# Altium footprint library DemoSchlib.PcbLib: 59 footprints (part 4 of 4)
Each footprint in its own frame and in the unit in brackets; x right, y up, seen from the top. Pads: shape width x height; smd on the part's side, far side on the other; paste and mask are expansions set on the pad; w line width, h text height; cw(c..) or ccw(c..) is an arc to the next point about the centre after c.
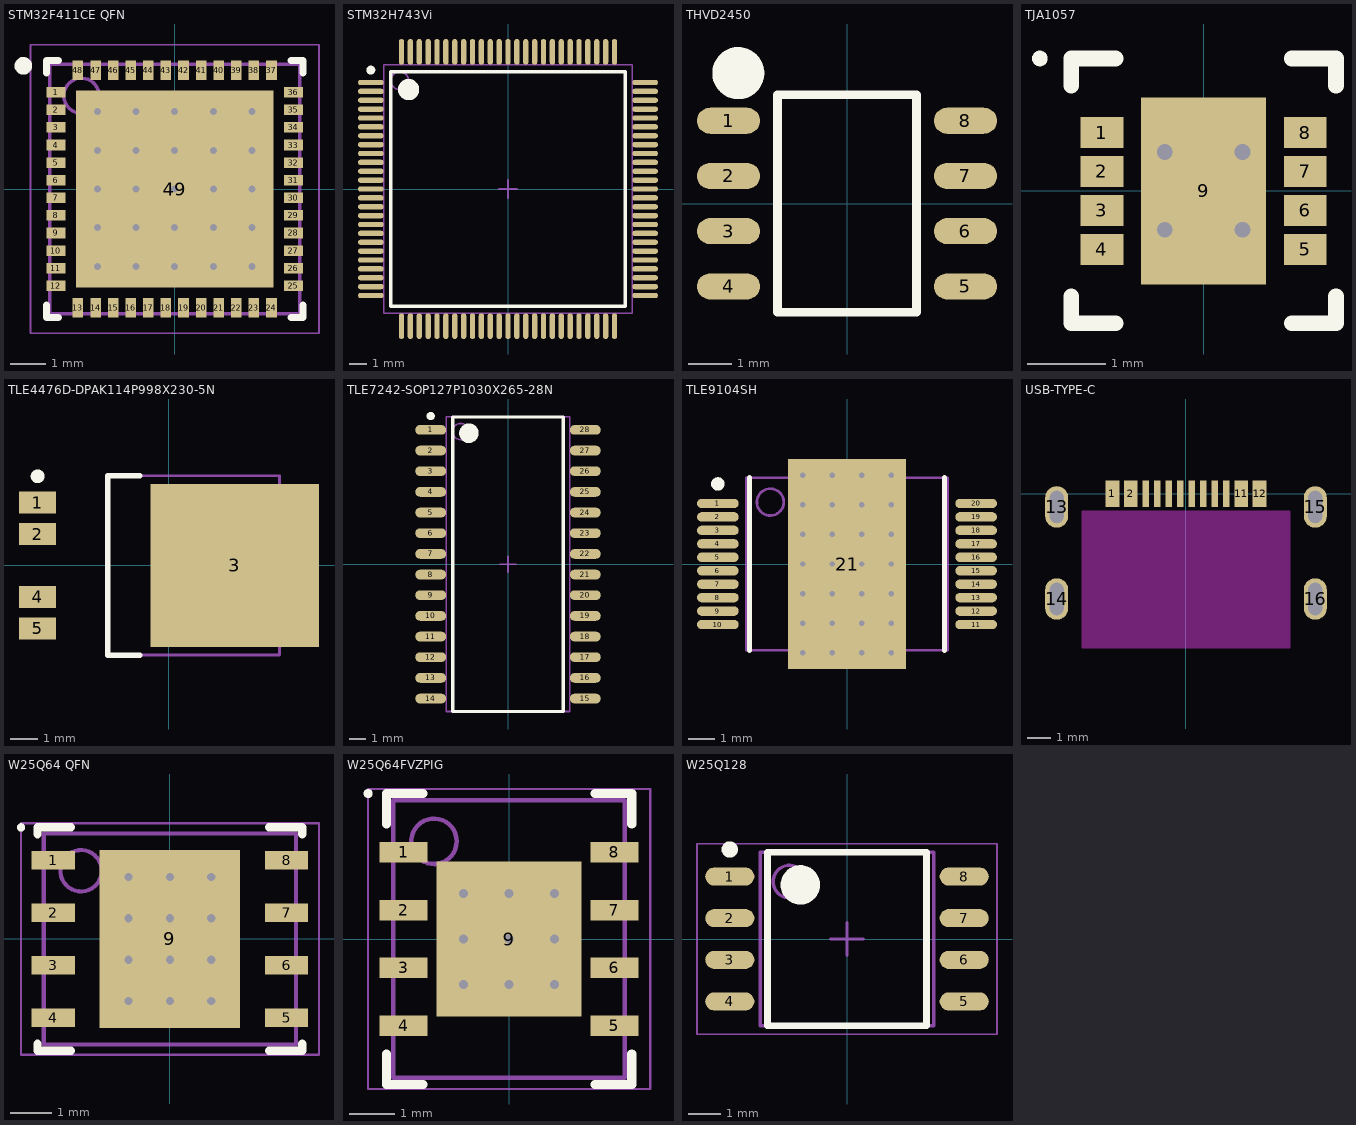
[diagram p3: the footprints below, top view; thin cyan lines are the x and y axes]

## STM32F411CE QFN [mm] "QFN, 48-Leads, Body 7.00x7.00mm, Pitch 0.50mm, Thermal Pad 5.60x5.60mm, IPC Medium Density"
height 0.6
pads (49):
  rect 0.55x0.3 smd: 1(-3.375,2.75) 2(-3.375,2.25) 3(-3.375,1.75) 4(-3.375,1.25) 5(-3.375,0.75) 6(-3.375,0.25) 7(-3.375,-0.25) 8(-3.375,-0.75) 9(-3.375,-1.25) 10(-3.375,-1.75) 11(-3.375,-2.25) 12(-3.375,-2.75) 25(3.375,-2.75) 26(3.375,-2.25) 27(3.375,-1.75) 28(3.375,-1.25) 29(3.375,-0.75) 30(3.375,-0.25) 31(3.375,0.25) 32(3.375,0.75) 33(3.375,1.25) 34(3.375,1.75) 35(3.375,2.25) 36(3.375,2.75)
  rect 0.3x0.55 smd: 13(-2.75,-3.375) 14(-2.25,-3.375) 15(-1.75,-3.375) 16(-1.25,-3.375) 17(-0.75,-3.375) 18(-0.25,-3.375) 19(0.25,-3.375) 20(0.75,-3.375) 21(1.25,-3.375) 22(1.75,-3.375) 23(2.25,-3.375) 24(2.75,-3.375) 37(2.75,3.375) 38(2.25,3.375) 39(1.75,3.375) 40(1.25,3.375) 41(0.75,3.375) 42(0.25,3.375) 43(-0.25,3.375) 44(-0.75,3.375) 45(-1.25,3.375) 46(-1.75,3.375) 47(-2.25,3.375) 48(-2.75,3.375)
  rect 5.6x5.6 smd: 49(0,0)
via -2.2,2.2 diameter 0.5 hole 0.2
via -1.1,2.2 diameter 0.5 hole 0.2
via 0,2.2 diameter 0.5 hole 0.2
via 1.1,2.2 diameter 0.5 hole 0.2
via 2.2,2.2 diameter 0.5 hole 0.2
via -2.2,1.1 diameter 0.5 hole 0.2
via -1.1,1.1 diameter 0.5 hole 0.2
via 0,1.1 diameter 0.5 hole 0.2
via 1.1,1.1 diameter 0.5 hole 0.2
via 2.2,1.1 diameter 0.5 hole 0.2
via -2.2,0 diameter 0.5 hole 0.2
via -1.1,0 diameter 0.5 hole 0.2
via 0,0 diameter 0.5 hole 0.2
via 1.1,0 diameter 0.5 hole 0.2
via 2.2,0 diameter 0.5 hole 0.2
via -2.2,-1.1 diameter 0.5 hole 0.2
via -1.1,-1.1 diameter 0.5 hole 0.2
via 0,-1.1 diameter 0.5 hole 0.2
via 1.1,-1.1 diameter 0.5 hole 0.2
via 2.2,-1.1 diameter 0.5 hole 0.2
via -2.2,-2.2 diameter 0.5 hole 0.2
via -1.1,-2.2 diameter 0.5 hole 0.2
via 0,-2.2 diameter 0.5 hole 0.2
via 1.1,-2.2 diameter 0.5 hole 0.2
via 2.2,-2.2 diameter 0.5 hole 0.2
Top Overlay:
  circle w0.25: c-4.3,3.5 r0.125
  lines w0.2: -3.65,-3.3 -3.65,-3.65 -3.3,-3.65 ; -3.65,3.3 -3.65,3.65 -3.3,3.65 ; 3.3,-3.65 3.65,-3.65 3.65,-3.3 ; 3.3,3.65 3.65,3.65 3.65,3.3
Mechanical 13:
  circle w0.1: c-2.65,2.65 r0.5
  lines w0.1: -3.55,-3.55 -3.55,3.55 3.55,3.55 3.55,-3.55 -3.55,-3.55
Mechanical 15:
  lines w0.05: -4.1,-4.1 -4.1,4.1 4.1,4.1 4.1,-4.1 -4.1,-4.1
  lines w0.1: -0.5,0 0.5,0 ; 0,-0.5 0,0.5
3D body "UFQFPN48.step": height 0.55, standoff 0, extent -3.5,-3.5 3.5,3.5

## STM32H743Vi [mm] "QFP127P600-8N"
height 1.6
pads (100):
  oval 1.45x0.3 smd: 1(-7.725,6) 2(-7.725,5.5) 3(-7.725,5) 4(-7.725,4.5) 5(-7.725,4) 6(-7.725,3.5) 7(-7.725,3) 8(-7.725,2.5) 9(-7.725,2) 10(-7.725,1.5) 11(-7.725,1) 12(-7.725,0.5) 13(-7.725,0) 14(-7.725,-0.5) 15(-7.725,-1) 16(-7.725,-1.5) 17(-7.725,-2) 18(-7.725,-2.5) 19(-7.725,-3) 20(-7.725,-3.5) 21(-7.725,-4) 22(-7.725,-4.5) 23(-7.725,-5) 24(-7.725,-5.5) 25(-7.725,-6) 51(7.725,-6) 52(7.725,-5.5) 53(7.725,-5) 54(7.725,-4.5) 55(7.725,-4) 56(7.725,-3.5) 57(7.725,-3) 58(7.725,-2.5) 59(7.725,-2) 60(7.725,-1.5) 61(7.725,-1) 62(7.725,-0.5) 63(7.725,0) 64(7.725,0.5) 65(7.725,1) 66(7.725,1.5) 67(7.725,2) 68(7.725,2.5) 69(7.725,3) 70(7.725,3.5) 71(7.725,4) 72(7.725,4.5) 73(7.725,5) 74(7.725,5.5) 75(7.725,6)
  oval 0.3x1.45 smd: 26(-6,-7.725) 27(-5.5,-7.725) 28(-5,-7.725) 29(-4.5,-7.725) 30(-4,-7.725) 31(-3.5,-7.725) 32(-3,-7.725) 33(-2.5,-7.725) 34(-2,-7.725) 35(-1.5,-7.725) 36(-1,-7.725) 37(-0.5,-7.725) 38(0,-7.725) 39(0.5,-7.725) 40(1,-7.725) 41(1.5,-7.725) 42(2,-7.725) 43(2.5,-7.725) 44(3,-7.725) 45(3.5,-7.725) 46(4,-7.725) 47(4.5,-7.725) 48(5,-7.725) 49(5.5,-7.725) 50(6,-7.725) 76(6,7.725) 77(5.5,7.725) 78(5,7.725) 79(4.5,7.725) 80(4,7.725) 81(3.5,7.725) 82(3,7.725) 83(2.5,7.725) 84(2,7.725) 85(1.5,7.725) 86(1,7.725) 87(0.5,7.725) 88(0,7.725) 89(-0.5,7.725) 90(-1,7.725) 91(-1.5,7.725) 92(-2,7.725) 93(-2.5,7.725) 94(-3,7.725) 95(-3.5,7.725) 96(-4,7.725) 97(-4.5,7.725) 98(-5,7.725) 99(-5.5,7.725) 100(-6,7.725)
Top Overlay:
  circle w0.25: c-7.725,6.7 r0.125
  circle w0.6: c-5.6,5.6 r0.3
  lines w0.2: -6.6,-6.6 -6.6,6.6 6.6,6.6 6.6,-6.6 -6.6,-6.6
Mechanical 13:
  circle w0.1: c-6.1,6.1 r0.5
  lines w0.1: -7,-7 -7,7 7,7 7,-7 -7,-7
Mechanical 15:
  lines w0.1: -0.5,0 0.5,0 ; 0,-0.5 0,0.5
3D body "LQFP100.step": height 1.6, standoff 0, extent -8,-8 8,8

## THVD2450 [mm] "SOIC, 8-Leads, Body 4.91x3.90mm, Pitch 1.27mm, IPC Medium Density"
height 1.75
pads (8):
  oval 1.45x0.6 smd: 1(-2.725,1.905) 2(-2.725,0.635) 3(-2.725,-0.635) 4(-2.725,-1.905) 5(2.725,-1.905) 6(2.725,-0.635) 7(2.725,0.635) 8(2.725,1.905)
Top Overlay:
  circle w0.6: c-2.5,3 r0.3
  lines w0.2: -1.6,-2.5 -1.6,2.5 1.6,2.5 1.6,-2.5 -1.6,-2.5
3D body "THVD2450.step": height 1.75, standoff 0, extent -2.997,-2.5 2.997,2.5

## TJA1057 [mm] "PSON, 8-Leads, Body 3.00x3.00mm, Pitch 0.50mm, Thermal Pad 2.40x1.60mm, IPC Medium Density"
height 1
pads (9):
  rect 0.55x0.4 smd: 1(-1.305,0.75) 2(-1.305,0.25) 3(-1.305,-0.25) 4(-1.305,-0.75) 5(1.305,-0.75) 6(1.305,-0.25) 7(1.305,0.25) 8(1.305,0.75)
  rect 1.6x2.4 smd: 9(0,0)
via -0.5,0.5 diameter 0.5 hole 0.2
via 0.5,0.5 diameter 0.5 hole 0.2
via -0.5,-0.5 diameter 0.5 hole 0.2
via 0.5,-0.5 diameter 0.5 hole 0.2
Top Overlay:
  circle w0.1: c-2.1,1.7 r0.05
  lines w0.2: -1.7,-1.35 -1.7,-1.7 -1.13,-1.7 ; -1.7,1.35 -1.7,1.7 -1.13,1.7 ; 1.13,-1.7 1.7,-1.7 1.7,-1.35 ; 1.13,1.7 1.7,1.7 1.7,1.35
3D body: height 1, standoff 0, extent -1.55,-1.55 1.55,1.55

## TLE4476D-DPAK114P998X230-5N [mm]
pads (5):
  rect 1.35x0.8 smd: 1(-4.75,2.28) 2(-4.75,1.14) 4(-4.75,-1.14) 5(-4.75,-2.28)
  rect 6.1x5.9 smd: 3(2.4,0)
Top Overlay:
  circle w0.25: c-4.75,3.23 r0.125
  lines w0.2: -1.05,-3.25 -2.2,-3.25 -2.2,3.25 -1.05,3.25
Mechanical 13:
  lines w0.1: -2.2,-3.25 4.02,-3.25 4.02,3.25 -2.2,3.25 -2.2,-3.25
3D body "DPAK114P998X230-5N.step": height 2.45, standoff 0, extent -4.66,-3.25 5.32,3.25

## TLE7242-SOP127P1030X265-28N [mm] "SOP, 28-Leads, Body 18.05x7.50mm, Pitch 1.27mm, IPC Medium Density"
height 2.65
pads (28):
  oval 1.9x0.6 smd: 1(-4.75,8.255) 2(-4.75,6.985) 3(-4.75,5.715) 4(-4.75,4.445) 5(-4.75,3.175) 6(-4.75,1.905) 7(-4.75,0.635) 8(-4.75,-0.635) 9(-4.75,-1.905) 10(-4.75,-3.175) 11(-4.75,-4.445) 12(-4.75,-5.715) 13(-4.75,-6.985) 14(-4.75,-8.255) 15(4.75,-8.255) 16(4.75,-6.985) 17(4.75,-5.715) 18(4.75,-4.445) 19(4.75,-3.175) 20(4.75,-1.905) 21(4.75,-0.635) 22(4.75,0.635) 23(4.75,1.905) 24(4.75,3.175) 25(4.75,4.445) 26(4.75,5.715) 27(4.75,6.985) 28(4.75,8.255)
Top Overlay:
  circle w0.25: c-4.75,9.105 r0.125
  circle w0.6: c-2.4,8.05 r0.3
  lines w0.2: -3.4,-9.05 -3.4,9.05 3.4,9.05 3.4,-9.05 -3.4,-9.05
Mechanical 13:
  circle w0.1: c-2.9,8.15 r0.5
  lines w0.1: -3.8,-9.05 -3.8,9.05 3.8,9.05 3.8,-9.05 -3.8,-9.05
Mechanical 15:
  lines w0.1: -0.5,0 0.5,0 ; 0,-0.5 0,0.5
3D body "SOP127P1030X265-28N.step": height 2.65, standoff 0, extent -5.15,-9.05 5.15,9.05

## TLE9104SH [mm] "LOW SIDE SWITCH"
pads (21):
  oval 1.55x0.35 smd: 1(-4.8,2.25) 2(-4.8,1.75) 3(-4.8,1.25) 4(-4.8,0.75) 5(-4.8,0.25) 6(-4.8,-0.25) 7(-4.8,-0.75) 8(-4.8,-1.25) 9(-4.8,-1.75) 10(-4.8,-2.25) 11(4.8,-2.25) 12(4.8,-1.75) 13(4.8,-1.25) 14(4.8,-0.75) 15(4.8,-0.25) 16(4.8,0.25) 17(4.8,0.75) 18(4.8,1.25) 19(4.8,1.75) 20(4.8,2.25)
  rect 4.4x7.8 smd: 21(0,0)
via 1.65,-3.3 diameter 0.5 hole 0.2
via 0.55,-3.3 diameter 0.5 hole 0.2
via -0.55,-3.3 diameter 0.5 hole 0.2
via -1.65,-3.3 diameter 0.5 hole 0.2
via 1.65,-2.2 diameter 0.5 hole 0.2
via 0.55,-2.2 diameter 0.5 hole 0.2
via -0.55,-2.2 diameter 0.5 hole 0.2
via -1.65,-2.2 diameter 0.5 hole 0.2
via 1.65,-1.1 diameter 0.5 hole 0.2
via 0.55,-1.1 diameter 0.5 hole 0.2
via -0.55,-1.1 diameter 0.5 hole 0.2
via -1.65,-1.1 diameter 0.5 hole 0.2
via 1.65,0 diameter 0.5 hole 0.2
via 0.55,0 diameter 0.5 hole 0.2
via -0.55,0 diameter 0.5 hole 0.2
via -1.65,0 diameter 0.5 hole 0.2
via 1.65,1.1 diameter 0.5 hole 0.2
via 0.55,1.1 diameter 0.5 hole 0.2
via -0.55,1.1 diameter 0.5 hole 0.2
via -1.65,1.1 diameter 0.5 hole 0.2
via 1.65,2.2 diameter 0.5 hole 0.2
via 0.55,2.2 diameter 0.5 hole 0.2
via -0.55,2.2 diameter 0.5 hole 0.2
via -1.65,2.2 diameter 0.5 hole 0.2
via 1.65,3.3 diameter 0.5 hole 0.2
via 0.55,3.3 diameter 0.5 hole 0.2
via -0.55,3.3 diameter 0.5 hole 0.2
via -1.65,3.3 diameter 0.5 hole 0.2
Top Overlay:
  circle w0.25: c-4.8,2.975 r0.125
  lines w0.2: -3.625,-3.2 -3.625,3.2 ; 3.625,-3.2 3.625,3.2
Mechanical 13:
  circle w0.1: c-2.85,2.3 r0.5
  lines w0.1: -3.75,-3.2 3.75,-3.2 3.75,3.2 -3.75,3.2 -3.75,-3.2
3D body "SSOP50P1030X260_HS-21N.step": height 2.6, standoff 0, extent -5.15,-3.2 5.15,3.2

## USB-TYPE-C [mm]
pads (16):
  rect 0.6x1.15 smd: 1(-3.2,0) 2(-2.4,0) 11(2.4,0) 12(3.2,0)
  rect 0.3x1.15 smd: 3(-1.75,0) 4(-1.25,0) 5(-0.75,0) 6(-0.25,0) 7(0.25,0) 8(0.75,0) 9(1.25,0) 10(1.75,0)
  rrect100% 1x1.8 hole 1.4 slot 0.6 at 0 deg: 13(-5.62,-0.565) 14(-5.62,-4.565) 15(5.62,-0.565) 16(5.62,-4.565)
Keep-Out Layer:
  board cut-out: -4.5,-6.665 -4.5,-0.775 4.5,-0.775 4.5,-6.665
Keep-Out Layer:
  lines w0.1: -4.5,-6.665 -4.5,-0.775 4.5,-0.775 4.5,-6.665 -4.5,-6.665

## W25Q64 QFN [mm]
height 0.8
pads (9):
  rect 1.05x0.45 smd: 1(-2.82,1.905) 2(-2.82,0.635) 3(-2.82,-0.635) 4(-2.82,-1.905) 5(2.82,-1.905) 6(2.82,-0.635) 7(2.82,0.635) 8(2.82,1.905)
  rect 3.4x4.3 smd paste-1.7: 9(0,0)
via 1,-1.5 diameter 0.5 hole 0.2
via 0,-1.5 diameter 0.5 hole 0.2
via -1,-1.5 diameter 0.5 hole 0.2
via 1,-0.5 diameter 0.5 hole 0.2
via 0,-0.5 diameter 0.5 hole 0.2
via -1,-0.5 diameter 0.5 hole 0.2
via 1,0.5 diameter 0.5 hole 0.2
via 0,0.5 diameter 0.5 hole 0.2
via -1,0.5 diameter 0.5 hole 0.2
via 1,1.5 diameter 0.5 hole 0.2
via 0,1.5 diameter 0.5 hole 0.2
via -1,1.5 diameter 0.5 hole 0.2
Top Overlay:
  circle w0.1: c-3.6,2.7 r0.05
  lines w0.2: -3.2,-2.53 -3.2,-2.7 -2.395,-2.7 ; -3.2,2.53 -3.2,2.7 -2.395,2.7 ; 2.395,-2.7 3.2,-2.7 3.2,-2.53 ; 2.395,2.7 3.2,2.7 3.2,2.53
Top Paste:
  rectangle: 0.665,-2.045 1.595,-0.815
  rectangle: 0.665,-0.615 1.595,0.615
  rectangle: 0.665,0.815 1.595,2.045
  rectangle: -0.465,-2.045 0.465,-0.815
  rectangle: -0.465,-0.615 0.465,0.615
  rectangle: -0.465,0.815 0.465,2.045
  rectangle: -1.595,-2.045 -0.665,-0.815
  rectangle: -1.595,-0.615 -0.665,0.615
  rectangle: -1.595,0.815 -0.665,2.045
Mechanical 13:
  circle w0.1: c-2.15,1.65 r0.5
  lines w0.1: -3.05,-2.55 3.05,-2.55 3.05,2.55 -3.05,2.55 -3.05,-2.55
Mechanical 15:
  lines w0.05: -3.605,-2.8 3.605,-2.8 3.605,2.8 -3.605,2.8 -3.605,-2.8
  lines w0.1: -0.5,0 0.5,0 ; 0,-0.5 0,0.5
3D body: height 0.8, standoff 0, extent -3.05,-2.55 3.05,2.55

## W25Q64FVZPIG [mm] "SON, 8-Leads, Body 6.00x5.00mm, Pitch 1.27mm, Thermal Pad 3.40x3.19mm, IPC Medium Density"
height 0.8
pads (9):
  rect 1.05x0.45 smd: 1(-2.32,1.905) 2(-2.32,0.635) 3(-2.32,-0.635) 4(-2.32,-1.905) 5(2.32,-1.905) 6(2.32,-0.635) 7(2.32,0.635) 8(2.32,1.905)
  rect 3.19x3.4 smd paste-1.595: 9(0,0)
via -1,1 diameter 0.5 hole 0.2
via 0,1 diameter 0.5 hole 0.2
via 1,1 diameter 0.5 hole 0.2
via -1,0 diameter 0.5 hole 0.2
via 0,0 diameter 0.5 hole 0.2
via 1,0 diameter 0.5 hole 0.2
via -1,-1 diameter 0.5 hole 0.2
via 0,-1 diameter 0.5 hole 0.2
via 1,-1 diameter 0.5 hole 0.2
Top Overlay:
  circle w0.1: c-3.1,3.2 r0.05
  lines w0.2: -2.7,-2.53 -2.7,-3.2 -1.895,-3.2 ; -2.7,2.53 -2.7,3.2 -1.895,3.2 ; 1.895,-3.2 2.7,-3.2 2.7,-2.53 ; 1.895,3.2 2.7,3.2 2.7,2.53
Top Paste:
  rectangle: -1.5,0.665 -0.1,1.595
  rectangle: -1.5,-0.465 -0.1,0.465
  rectangle: -1.5,-1.595 -0.1,-0.665
  rectangle: 0.1,0.665 1.5,1.595
  rectangle: 0.1,-0.465 1.5,0.465
  rectangle: 0.1,-1.595 1.5,-0.665
Mechanical 13:
  circle w0.1: c-1.65,2.15 r0.5
  lines w0.1: -2.55,-3.05 -2.55,3.05 2.55,3.05 2.55,-3.05 -2.55,-3.05
Mechanical 15:
  lines w0.05: -3.105,-3.3 -3.105,3.3 3.105,3.3 3.105,-3.3 -3.105,-3.3
  lines w0.1: -0.5,0 0.5,0 ; 0,-0.5 0,0.5
3D body "W25Q64FVZPIG.step": height 0.8, standoff 0, extent -2.551,-3.05 2.551,3.05

## W25Q128 [mm] "SOIC, 8-Leads, Body 5.23x5.23mm, Pitch 1.27mm, IPC Medium Density"
height 2.16
pads (8):
  oval 1.5x0.55 smd: 1(-3.575,1.905) 2(-3.575,0.635) 3(-3.575,-0.635) 4(-3.575,-1.905) 5(3.575,-1.905) 6(3.575,-0.635) 7(3.575,0.635) 8(3.575,1.905)
Top Overlay:
  circle w0.6: c-1.425,1.65 r0.3
  circle w0.25: c-3.575,2.73 r0.125
  lines w0.2: -2.425,-2.65 2.425,-2.65 2.425,2.65 -2.425,2.65 -2.425,-2.65
Mechanical 13:
  circle w0.1: c-1.75,1.75 r0.5
  lines w0.1: -2.65,-2.65 2.65,-2.65 2.65,2.65 -2.65,2.65 -2.65,-2.65
Mechanical 15:
  lines w0.05: -4.575,-2.9 4.575,-2.9 4.575,2.9 -4.575,2.9 -4.575,-2.9
  lines w0.1: -0.5,0 0.5,0 ; 0,-0.5 0,0.5
3D body: height 2.16, standoff 0.05, extent -2.65,-2.65 2.65,2.65